# EAGLE library part ISOLATED-8 (library resitor-arrays)
See: http://rocky.digikey.com/WebLib/panasonic/exb-2hv.pdf
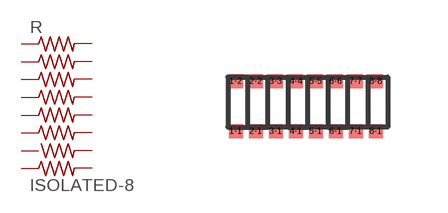
[diagram p0: symbol with the pads of 0402-8; footprint 0402-8]

Designator prefix R

## ISOLATED-8  [0402-8]
1-1  1-1  pas
1-2  1-2  pas
2-1  2-1  pas
2-2  2-2  pas
3-1  3-1  pas
3-3  3-2  pas
4-1  4-1  pas
4-4  4-2  pas
5-1  5-1  pas
5-5  5-2  pas
6-1  6-1  pas
6-6  6-2  pas
7-1  7-1  pas
7-7  7-2  pas
8-1  8-1  pas
8-8  8-2  pas

## Footprint 0402-8 (pad centres in mm)
8 0402 package smd resistors connected. Example Parts: Digikey: Y1470CT-ND -> Panasonic EXB-2HVxxxJV
smd 0.35 x 0.35: 1-1 -1.55,-0.6; 1-2 -1.55,0.65; 2-1 -1.05,-0.6; 2-2 -1.05,0.65; 3-1 -0.55,-0.6; 3-3 -0.55,0.65; 4-1 -0.05,-0.6; 4-4 -0.05,0.65; 5-1 0.45,-0.6; 5-5 0.45,0.65; 6-1 0.95,-0.6; 6-6 0.95,0.65; 7-1 1.45,-0.6; 7-7 1.45,0.65; 8-1 1.95,-0.6; 8-8 1.95,0.65